# Altium footprint library master_flying_pcb_v1.PcbLib: 19 footprints (part 1 of 2)
Each footprint in its own frame and in the unit in brackets; x right, y up, seen from the top. Pads: shape width x height; smd on the part's side, far side on the other; paste and mask are expansions set on the pad; w line width, h text height; cw(c..) or ccw(c..) is an arc to the next point about the centre after c.
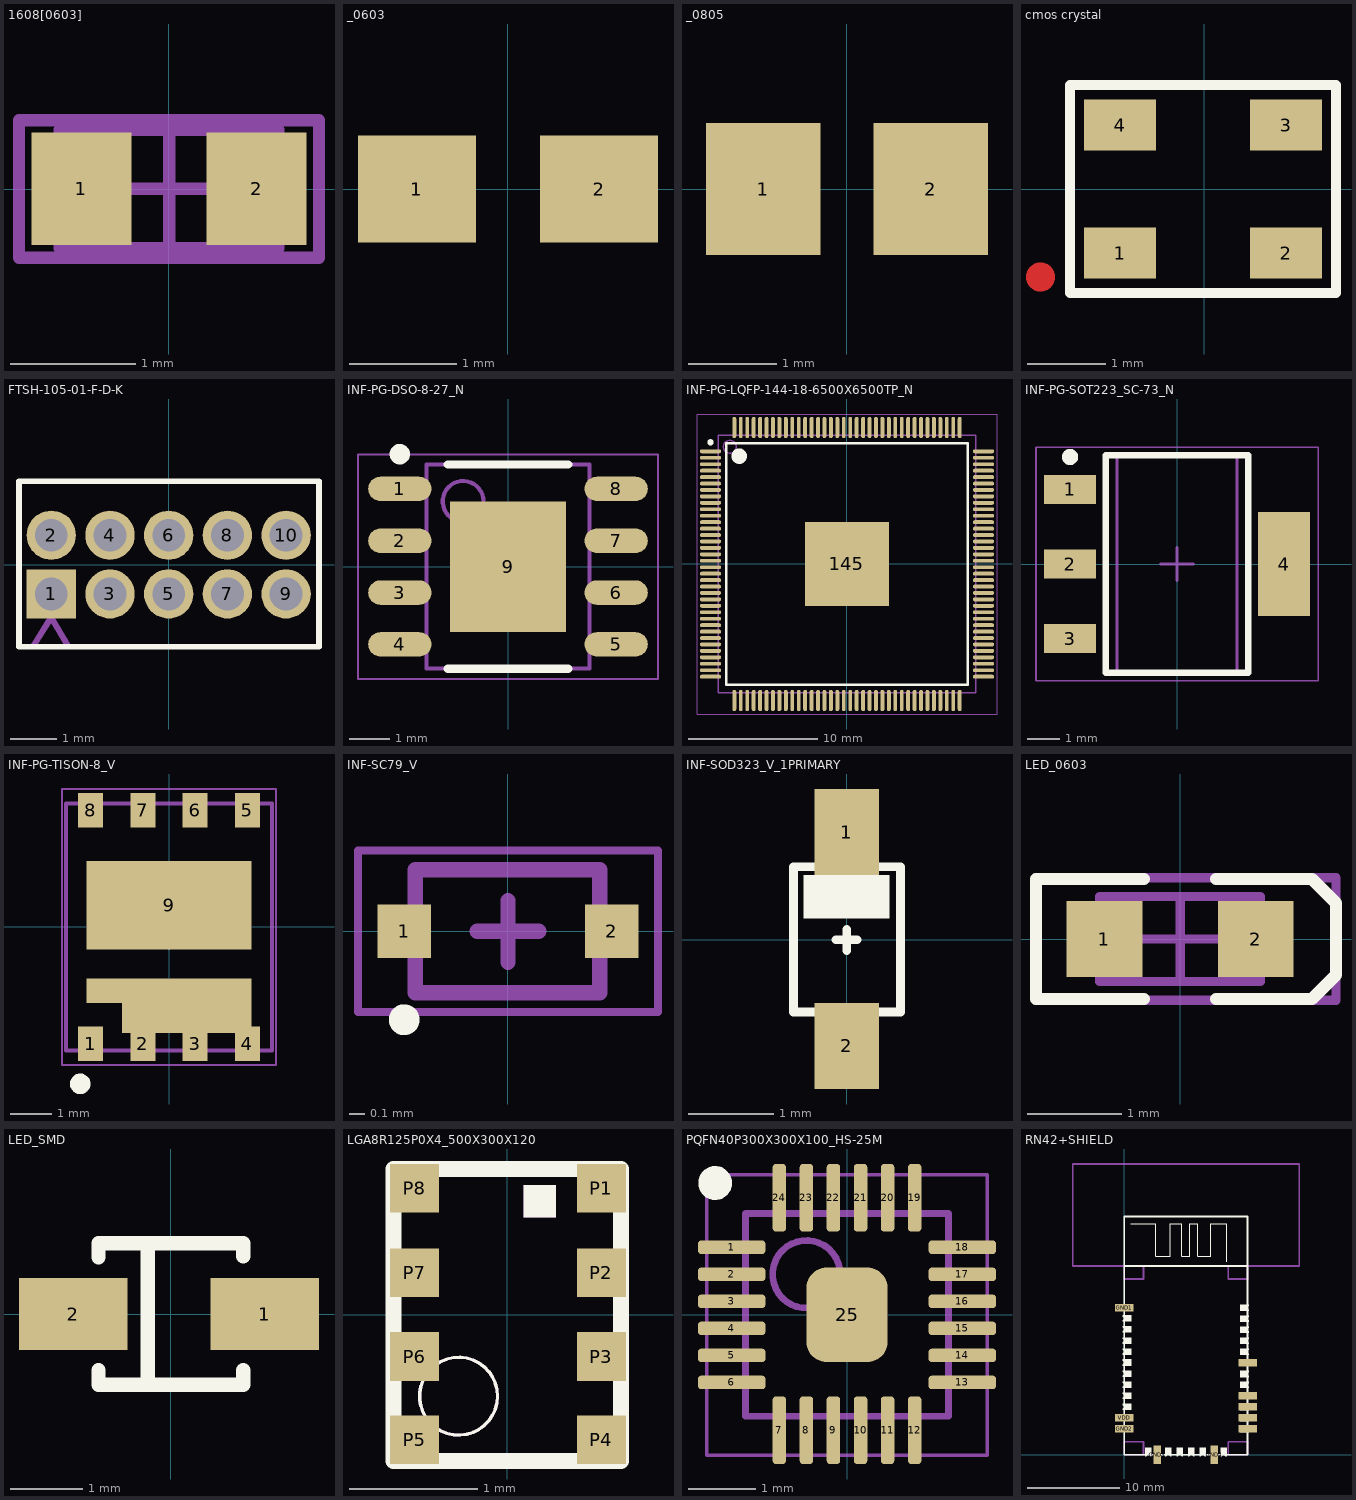
[diagram p0: the footprints below, top view; thin cyan lines are the x and y axes]

## 1608[0603] [mm] "Chip Capacitor, Body 1.6x0.8mm, IPC High Density"
height 1.3
pads (2):
  rect 0.8x0.9 smd: 1(-0.7,0) 2(0.7,0)
Mechanical 13:
  lines w0.1: -0.875,-0.475 0.875,-0.475 0.875,0.475 -0.875,0.475 -0.875,-0.475
Mechanical 15:
  lines w0.1: -0.475,0 0.475,0 ; 0,-0.475 0,0.475 ; -1.2,-0.55 1.2,-0.55 1.2,0.55 -1.2,0.55 -1.2,-0.55
3D body: height 1.3, standoff 0, extent -0.875,-0.475 0.875,0.475

## _0603 [mm]
height 0.55
pads (2):
  rect 1.1x1 smd: 1(-0.85,0) 2(0.85,0)
3D body "SW3dPS-0603 SMD Capacitor.STEP": height 0.3, standoff 0, extent -0.8,-0.406 0.8,0.394

## _0805 [mm]
height 0.7
pads (2):
  rect 1.3x1.5 smd: 1(-0.95,0) 2(0.95,0)
3D body "SW3dPS-0805 SMD Capacitor.STEP": height 0.78, standoff 0, extent -1,-0.635 1,0.615

## cmos crystal [mil]
pads (4):
  rect 36x25.6 smd: 1(-42,-32) 2(41,-32) 3(41,32) 4(-42,32)
Top Layer:
  circle w10: c-81.76,-44 r2.24
Top Overlay:
  lines w5: -67,-52 -67,52 66,52 66,-52 -67,-52
3D body: height 39, standoff 0, extent -62,-48 61,47

## FTSH-105-01-F-D-K [mil]
height 39.37
pads (10):
  rect 42x42 hole 28: 1(-100,-25)
  round 42 hole 28: 2(-100,25) 3(-50,-25) 4(-50,25) 5(0,-25) 6(0,25) 7(50,-25) 8(50,25) 9(100,-25) 10(100,25)
Top Overlay:
  lines w5: -127.48,-70.04 -127.48,71 128,71 128,-70.04 -127.48,-70.04
Mechanical 2:
Mechanical 4:
Mechanical 16:
  lines w5: -115,-69 -100,-45 -86,-69 ; -106.87,-31.87 -106.87,-16.13 -91.13,-16.13 -91.13,-31.87 -106.87,-31.87 ; -106.87,19 -106.87,34 -91.13,34 -91.13,19 -106.87,19 ; -56.87,-31.87 -56.87,-16.13 -41.13,-16.13 -41.13,-31.87 -56.87,-31.87 ; -56.87,19 -56.87,34 -41.13,34 -41.13,19 -56.87,19 ; -6.87,-31.87 -6.87,-16.13 9,-16.13 9,-31.87 -6.87,-31.87 ; -6.87,19 -6.87,34 9,34 9,19 -6.87,19 ; 44,-31.87 44,-16.13 59,-16.13 59,-31.87 44,-31.87 ; 44,19 44,34 59,34 59,19 44,19 ; 94,-31.87 94,-16.13 109,-16.13 109,-31.87 94,-31.87 ; 94,19 94,34 109,34 109,19 94,19

## INF-PG-DSO-8-27_N [mm] "SOP, 8-Leads, Body 4.9x3.9mm, Pitch 1.27mm, Thermal Pad 3.2x2.85mm, IPC Medium Density"
height 1.7
pads (9):
  oval 1.55x0.6 smd: 1(-2.65,1.905) 2(-2.65,0.635) 3(-2.65,-0.635) 4(-2.65,-1.905) 5(2.65,-1.905) 6(2.65,-0.635) 7(2.65,0.635) 8(2.65,1.905)
  rect 2.85x3.2 smd: 9(0,0)
Top Overlay:
  circle w0.25: c-2.65,2.755 r0.125
  lines w0.2: -1.475,-2.5 1.475,-2.5 ; -1.475,2.5 1.475,2.5
Mechanical 13:
  circle w0.1: c-1.1,1.6 r0.5
  lines w0.1: -2,-2.5 2,-2.5 2,2.5 -2,2.5 -2,-2.5
Mechanical 15:
  lines w0.05: -3.675,-2.75 3.675,-2.75 3.675,2.75 -3.675,2.75 -3.675,-2.75
  lines w0.1: -0.5,0 0.5,0 ; 0,-0.5 0,0.5
3D body: height 1.7, standoff 0, extent -2,-2.5 2,2.5

## INF-PG-LQFP-144-18-6500X6500TP_N [mm] "QFP, 144-Leads, Body 20x20mm, Pitch 0.5mm, Thermal Pad 6.5x6.5mm, IPC Medium Density"
height 1.6
pads (145):
  oval 1.65x0.3 smd: 1(-10.6,8.75) 2(-10.6,8.25) 3(-10.6,7.75) 4(-10.6,7.25) 5(-10.6,6.75) 6(-10.6,6.25) 7(-10.6,5.75) 8(-10.6,5.25) 9(-10.6,4.75) 10(-10.6,4.25) 11(-10.6,3.75) 12(-10.6,3.25) 13(-10.6,2.75) 14(-10.6,2.25) 15(-10.6,1.75) 16(-10.6,1.25) 17(-10.6,0.75) 18(-10.6,0.25) 19(-10.6,-0.25) 20(-10.6,-0.75) 21(-10.6,-1.25) 22(-10.6,-1.75) 23(-10.6,-2.25) 24(-10.6,-2.75) 25(-10.6,-3.25) 26(-10.6,-3.75) 27(-10.6,-4.25) 28(-10.6,-4.75) 29(-10.6,-5.25) 30(-10.6,-5.75) 31(-10.6,-6.25) 32(-10.6,-6.75) 33(-10.6,-7.25) 34(-10.6,-7.75) 35(-10.6,-8.25) 36(-10.6,-8.75) 73(10.6,-8.75) 74(10.6,-8.25) 75(10.6,-7.75) 76(10.6,-7.25) 77(10.6,-6.75) 78(10.6,-6.25) 79(10.6,-5.75) 80(10.6,-5.25) 81(10.6,-4.75) 82(10.6,-4.25) 83(10.6,-3.75) 84(10.6,-3.25) 85(10.6,-2.75) 86(10.6,-2.25) 87(10.6,-1.75) 88(10.6,-1.25) 89(10.6,-0.75) 90(10.6,-0.25) 91(10.6,0.25) 92(10.6,0.75) 93(10.6,1.25) 94(10.6,1.75) 95(10.6,2.25) 96(10.6,2.75) 97(10.6,3.25) 98(10.6,3.75) 99(10.6,4.25) 100(10.6,4.75) 101(10.6,5.25) 102(10.6,5.75) 103(10.6,6.25) 104(10.6,6.75) 105(10.6,7.25) 106(10.6,7.75) 107(10.6,8.25) 108(10.6,8.75)
  oval 0.3x1.65 smd: 37(-8.75,-10.6) 38(-8.25,-10.6) 39(-7.75,-10.6) 40(-7.25,-10.6) 41(-6.75,-10.6) 42(-6.25,-10.6) 43(-5.75,-10.6) 44(-5.25,-10.6) 45(-4.75,-10.6) 46(-4.25,-10.6) 47(-3.75,-10.6) 48(-3.25,-10.6) 49(-2.75,-10.6) 50(-2.25,-10.6) 51(-1.75,-10.6) 52(-1.25,-10.6) 53(-0.75,-10.6) 54(-0.25,-10.6) 55(0.25,-10.6) 56(0.75,-10.6) 57(1.25,-10.6) 58(1.75,-10.6) 59(2.25,-10.6) 60(2.75,-10.6) 61(3.25,-10.6) 62(3.75,-10.6) 63(4.25,-10.6) 64(4.75,-10.6) 65(5.25,-10.6) 66(5.75,-10.6) 67(6.25,-10.6) 68(6.75,-10.6) 69(7.25,-10.6) 70(7.75,-10.6) 71(8.25,-10.6) 72(8.75,-10.6) 109(8.75,10.6) 110(8.25,10.6) 111(7.75,10.6) 112(7.25,10.6) 113(6.75,10.6) 114(6.25,10.6) 115(5.75,10.6) 116(5.25,10.6) 117(4.75,10.6) 118(4.25,10.6) 119(3.75,10.6) 120(3.25,10.6) 121(2.75,10.6) 122(2.25,10.6) 123(1.75,10.6) 124(1.25,10.6) 125(0.75,10.6) 126(0.25,10.6) 127(-0.25,10.6) 128(-0.75,10.6) 129(-1.25,10.6) 130(-1.75,10.6) 131(-2.25,10.6) 132(-2.75,10.6) 133(-3.25,10.6) 134(-3.75,10.6) 135(-4.25,10.6) 136(-4.75,10.6) 137(-5.25,10.6) 138(-5.75,10.6) 139(-6.25,10.6) 140(-6.75,10.6) 141(-7.25,10.6) 142(-7.75,10.6) 143(-8.25,10.6) 144(-8.75,10.6)
  rect 6.5x6.5 smd: 145(0,0)
Top Overlay:
  circle w0.6: c-8.375,8.375 r0.3
  circle w0.25: c-10.6,9.45 r0.125
  lines w0.2: -9.375,-9.375 9.375,-9.375 9.375,9.375 -9.375,9.375 -9.375,-9.375
Mechanical 13:
  circle w0.1: c-9.1,9.1 r0.5
  lines w0.1: -10,-10 10,-10 10,10 -10,10 -10,-10
Mechanical 15:
  lines w0.05: -11.65,-11.65 11.65,-11.65 11.65,11.65 -11.65,11.65 -11.65,-11.65
  lines w0.1: -0.5,0 0.5,0 ; 0,-0.5 0,0.5
3D body: height 1.6, standoff 0.05, extent -10,-10 10,10

## INF-PG-SOT223_SC-73_N [mm] "SOT223, 4-Leads, Body 6.5x3.5mm, Pitch 2.3mm, IPC Medium Density"
height 1.8
pads (4):
  rect 1.6x0.9 smd: 1(-3.3,2.3) 2(-3.3,0) 3(-3.3,-2.3)
  rect 1.6x3.2 smd: 4(3.3,0)
Top Overlay:
  circle w0.25: c-3.3,3.3 r0.125
  lines w0.2: -2.2,-3.35 -2.2,3.35 2.2,3.35 2.2,-3.35 -2.2,-3.35
Mechanical 13:
  lines w0.1: -1.85,-3.35 -1.85,3.35 1.85,3.35 1.85,-3.35 -1.85,-3.35
Mechanical 15:
  lines w0.05: -4.35,-3.6 -4.35,3.6 4.35,3.6 4.35,-3.6 -4.35,-3.6
  lines w0.1: -0.5,0 0.5,0 ; 0,-0.5 0,0.5
3D body: height 1.8, standoff 0.1, extent -1.85,-3.35 1.85,3.35

## INF-PG-TISON-8_V [mm]
pads (11):
  rect 0.61x0.83 smd: 1(-1.905,-2.835) 2(-0.635,-2.835) 3(0.635,-2.835) 4(1.905,-2.835) 5(1.905,2.835) 6(0.635,2.835) 7(-0.635,2.835) 8(-1.905,2.835)
  rect 4x2.15 smd: 9(0,0.525)
  rect 4x0.6 smd: ""(0,-1.55)
  rect 3.14x0.72 smd: ""(0.43,-2.21)
Top Overlay:
  circle w0.25: c-2.157,-3.81 r0.125
Mechanical 13:
  lines w0.1: -2.5,-3 2.5,-3 2.5,3 -2.5,3 -2.5,-3
Mechanical 15:
  lines w0.05: -2.6,-3.35 -2.6,3.35 2.6,3.35 2.6,-3.35 -2.6,-3.35
  lines w0.1: -0.5,0 0.5,0 ; 0,-0.5 0,0.5
3D body: height 1.15, standoff 0, extent -2.5,-3 2.5,3

## INF-SC79_V [mm]
height 1
pads (2):
  rect 0.35x0.35 smd: 1(-0.672,0) 2(0.678,0)
Top Overlay:
  circle w0.1: c-0.672,-0.575 r0.05
Mechanical 13:
  lines w0.1: -0.6,-0.4 0.6,-0.4 0.6,0.4 -0.6,0.4 -0.6,-0.4
Mechanical 15:
  lines w0.05: -0.972,-0.254 -0.972,0.337 -0.972,0.525 -0.762,0.525 0.381,0.525 0.978,0.525 0.978,0.337 0.978,-0.254 ; -0.972,0.254 -0.972,-0.337 -0.972,-0.525 -0.762,-0.525 0.381,-0.525 0.978,-0.525 0.978,-0.337 0.978,0.254
  lines w0.1: -0.197,0 0.203,0 ; 0.003,-0.2 0.003,0.2
3D body: height 0.59, standoff 0, extent -0.597,-0.4 0.603,0.4

## INF-SOD323_V_1PRIMARY [mil]
height 39.37
pads (2):
  rect 30x40 smd: 1(0,50) 2(0,-49.21)
Top Overlay:
  rectangle: -10,-55 10,-35
  rectangle: -10,35 10,55
  rectangle: -5,35 5,50
  rectangle: -20,10 20,30
  rectangle: -10,-55 10,-35
  rectangle: -10,35 10,55
  rectangle: -5,35 5,50
  rectangle: -20,10 20,30
  lines w4: -5,0 5,0 ; 0,-5 0,5 ; -24.61,-33.46 25,-33.46 25,34 -24.61,34 -24.61,-33.46
Mechanical 2:
Mechanical 4:

## LED_0603 [mm] "Chip LED, 2-Leads, Body 1.6x0.8mm, IPC Medium Density"
height 0.68
pads (2):
  rect 0.8x0.8 smd: 1(-0.8,0) 2(0.8,0)
Top Overlay:
  lines w0.127: -0.381,-0.635 -1.524,-0.635 -1.524,0.635 -0.381,0.635 ; 0.381,-0.635 1.397,-0.635 1.651,-0.381 1.651,0.381 1.397,0.635 0.381,0.635
Mechanical 13:
  lines w0.1: -0.85,-0.45 0.85,-0.45 0.85,0.45 -0.85,0.45 -0.85,-0.45
Mechanical 15:
  lines w0.1: -0.45,0 0.45,0 ; 0,-0.45 0,0.45 ; -1.525,-0.65 1.651,-0.65 1.651,0.65 -1.525,0.65 -1.525,-0.65
3D body "WL-SMCW_0603_LED.stp": height 0.7, standoff 0, extent -0.8,-0.4 0.8,0.4

## LED_SMD [mm]
height 1.5
pads (2):
  rect 1.5x1 smd: 1(1.298,0) 2(-1.349,0)
Top Overlay:
  lines w0.2: -1,-0.776 -1,-0.976 1,-0.976 1,-0.776 ; -1,0.787 -1,0.976 1,0.976 1,0.802 ; -0.322,-0.9 -0.322,0.9
3D body: height 1.3, standoff 0, extent -0.318,-0.851 1.226,0.851
3D body: height 1.3, standoff 0, extent -1.118,-0.851 -0.445,0.851

## LGA8R125P0X4_500X300X120 [mil]
pads (8):
  rect 15x15 smd: P1(29,39) P2(29,13) P3(29,-12.8) P4(29,-38.39) P5(-28.54,-38.39) P6(-28.54,-12.8) P7(-28.54,13) P8(-28.54,39)
Top Overlay:
  circle w1: c-15,-25 r12
  rectangle: 5,30 15,40
  lines w5: -35,-45 35,-45 35,45 -35,45 -35,-45
Mechanical 2:
Mechanical 4:
Mechanical 13:
  circle w1: c-15,-25 r12
  rectangle: 5,30 15,40

## PQFN40P300X300X100_HS-25M [mm] "PQFN, 24-Leads, Body 3,00x3,00mm, Pitch 0,40mm, Thermal Pad 1,54x1,70mm, IPC Low Density"
height 1
pads (25):
  rrect50% 1x0.2 smd: 1(-1.706,1) 2(-1.706,0.6) 3(-1.706,0.2) 4(-1.706,-0.2) 5(-1.706,-0.6) 6(-1.706,-1) 13(1.706,-1) 14(1.706,-0.6) 15(1.706,-0.2) 16(1.706,0.2) 17(1.706,0.6) 18(1.706,1)
  rrect50% 0.2x1 smd: 7(-1,-1.706) 8(-0.6,-1.706) 9(-0.2,-1.706) 10(0.2,-1.706) 11(0.6,-1.706) 12(1,-1.706) 19(1,1.731) 20(0.6,1.731) 21(0.2,1.731) 22(-0.2,1.731) 23(-0.6,1.731) 24(-1,1.731)
  rrect50% 1.2x1.4 smd: 25(0,0)
Top Overlay:
  circle w0.25: c-1.95,1.95 r0.125
Mechanical 13:
  circle w0.1: c-0.6,0.6 r0.5
  lines w0.1: -1.5,-1.5 -1.5,1.5 1.5,1.5 1.5,-1.5 -1.5,-1.5
Mechanical 15:
  lines w0.05: -2.075,-2.075 -2.075,2.075 2.075,2.075 2.075,-2.075 -2.075,-2.075
  lines w0.1: -0.5,0 0.5,0 ; 0,-0.5 0,0.5
3D body "PQFN40P300X300X100_HS-25M.step": height 1, standoff 0, extent -1.5,-1.5 1.5,1.5

## RN42+SHIELD [mil]
pads (10):
  rect 79x32 smd: GND1(0,630) GND2(0,111) GPIO_2(528,394) UART_CTX(528,252) UART_RTX(528,205) UART_RX(528,111) UART_TX(528,158) VDD(0,158)
  rect 32x79 smd: GND3(142,0) GND4(386,0)
Top Overlay:
  drawing of 85 lines, arcs and shapes, not listed
Mechanical 2:
Mechanical 4:
Mechanical 8:
  lines w8: 0,808 -220.47,808 -220.47,1245 749,1245 749,808 528,808 ; 0,808 83,808 ; 0,808 0,752 83,752 83,808 ; 83,808 445,808 ; 445,808 528,808 ; 445,808 445,752 528,752 528,808 ; 0,0 83,0 83,56 0,56 0,0 ; 445,0 528,0 528,56 445,56 445,0
3D body "User Library-RN42.step": height 83.46, standoff 0, extent -7.56,2.13 520,1017.87